# EAGLE library part NE5532AP (library My_Library_2)
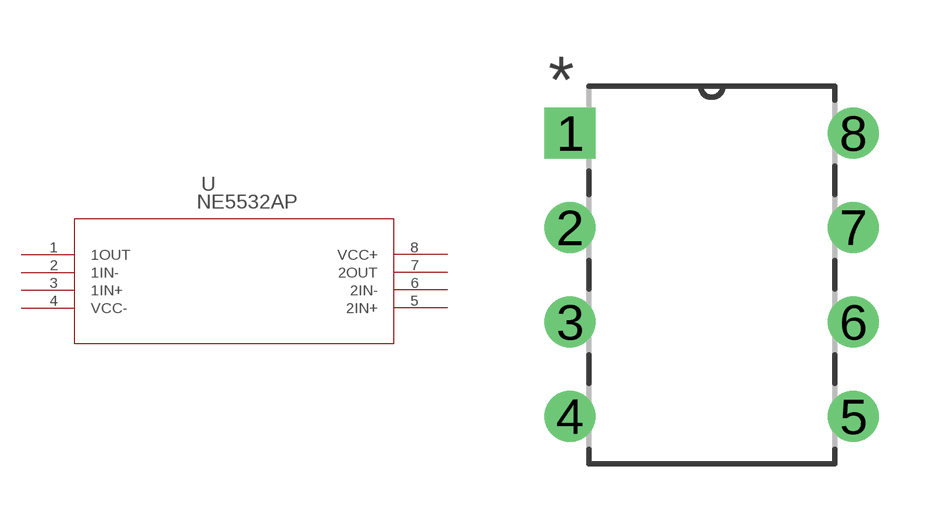
[diagram p7: symbol with the pads of P8; footprint P8]

Designator prefix U

## NE5532AP (COPYRIGHT: Copyright (C) 2024 Ultra Librarian. All rights reserved.; MANUFACTURER_PART_NUMBER: NE5532AP; MFR_NAME: Texas Instruments)  [P8]
1  1OUT  out
2  1IN-  in
3  1IN+  in
4  VCC-  pwr
5  2IN+  in
6  2IN-  in
7  2OUT  out
8  VCC+  pwr

## Footprint P8 (pad centres in mm)
drill 0.864 pad 1.372 square: 1 -7.62,7.62
drill 0.864 pad 1.372: 2 -7.62,5.08; 3 -7.62,2.54; 4 -7.62,0; 5 0,0; 6 0,2.54; 7 0,5.08; 8 0,7.62